# Altium footprint library LQFN-24_0.PcbLib: 1 footprints
Each footprint in its own frame and in the unit in brackets; x right, y up, seen from the top. Pads: shape width x height; smd on the part's side, far side on the other; paste and mask are expansions set on the pad; w line width, h text height; cw(c..) or ccw(c..) is an arc to the next point about the centre after c.
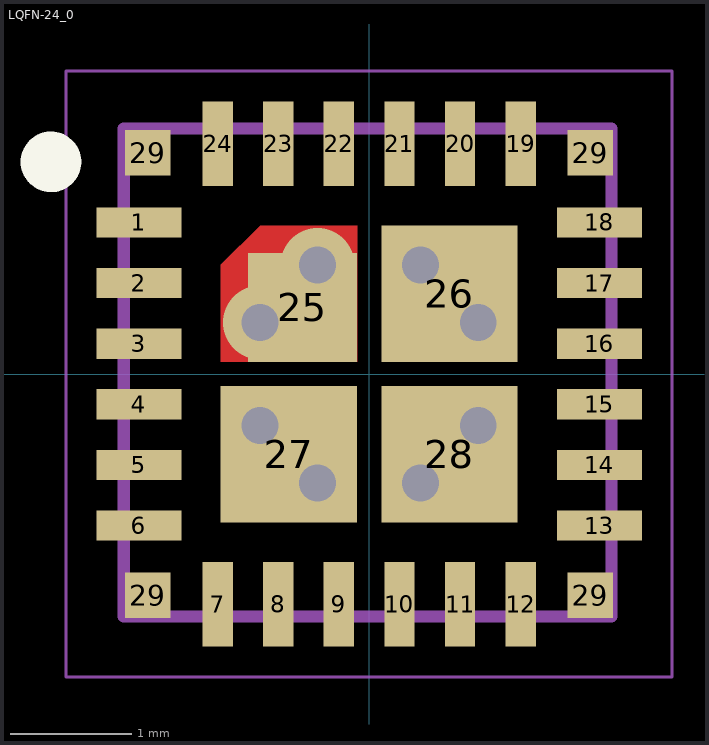
[diagram p0: the footprint, top view; thin cyan lines are the x and y axes]

## LQFN-24_0 [mm]
pads (32):
  rect 0.7x0.25 smd mask+0.05: 1(-1.9,1.25) 2(-1.9,0.75) 3(-1.9,0.25) 4(-1.9,-0.25) 5(-1.9,-0.75) 6(-1.9,-1.25) 13(1.9,-1.25) 14(1.9,-0.75) 15(1.9,-0.25) 16(1.9,0.25) 17(1.9,0.75) 18(1.9,1.25)
  rect 0.25x0.7 smd mask+0.05: 7(-1.25,-1.9) 8(-0.75,-1.9) 9(-0.25,-1.9) 10(0.25,-1.9) 11(0.75,-1.9) 12(1.25,-1.9) 19(1.25,1.9) 20(0.75,1.9) 21(0.25,1.9) 22(-0.25,1.9) 23(-0.75,1.9) 24(-1.25,1.9)
  rect 0.9x0.9 smd mask+0: 25(-0.55,0.55)
  rect 1.125x1.125 smd: 26(0.663,0.663) 27(-0.663,-0.663) 28(0.663,-0.663)
  rect 0.375x0.375 smd mask+0.05: 29(-1.825,-1.825) 29(-1.825,1.825) 29(1.825,-1.825) 29(1.825,1.825)
via -0.9,0.425 diameter 0.61 hole 0.305
via -0.425,0.9 diameter 0.61 hole 0.305
via 0.9,0.425 diameter 0.61 hole 0.305
via -0.9,-0.425 diameter 0.61 hole 0.305
via -0.425,-0.9 diameter 0.61 hole 0.305
via 0.425,-0.9 diameter 0.61 hole 0.305
via 0.9,-0.425 diameter 0.61 hole 0.305
via 0.425,0.9 diameter 0.61 hole 0.305
Top Layer:
  region: -1.225,0.1 -0.1,0.1 -0.1,1.225 -0.9,1.225 -1.225,0.9
Top Overlay:
  circle w0.25: c-2.625,1.75 r0.125
Mechanical 13:
  lines w0.1: -2.025,2 -2.025,-2 2,-2 2,2.025 -2.025,2.025
Mechanical 15:
  lines w0.025: -2.5,-2.5 -2.5,2.5 2.5,2.5 2.5,-2.5 -2.5,-2.5
3D body: height 0.94, standoff 0, extent -2.013,-2.013 2.013,2.013